# EAGLE library part 50376-004 (library con-aces-50376-series-)
ACES CONNECTORS 50376 SERIES ACES Connecors 50376 <https://www.acesconn.com/series/50376-xxxxx-xxx/2725>
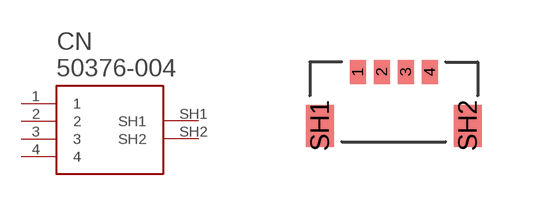
[diagram p0: symbol with the pads of 50376-004; footprint 50376-004]

Designator prefix CN

## 50376-004  [50376-004]
1  1
2  2
3  3
4  4
SH1  SH1
SH2  SH2

## Footprint 50376-004 (pad centres in mm)
smd 0.4 x 0.6: 1 -0.9,0; 2 -0.3,0; 3 0.3,0; 4 0.9,0
smd 0.7 x 1.05: SH1 -1.85,-1.35; SH2 1.85,-1.35